# EAGLE library part 692622420101 (library WE_Stecker)
MICRO USB 3.0 TYPE B VERTICAL SMT - WITH PADS & POSITIONNING PEG =>ConUSB3 692622420101 Characteristics INSULATOR:LCP FLAMMABILITY RATING: UL94-V0 COLOR: BLACK CONTACT MATERIAL: BRASS CONTACT PLATING: GOLD OVER TIN COVER MATERIAL: STAINLESS STEEL COVER PLATING: Ni QUALITY CLASS: 10000 MATING CYCLES OPERATING TEMPERATURE:-30°C UP TO +85°C COMPLIANCE: LEAD FREE AND ROHS ELECTRICAL CURRENT RATING: 2A CURRENT RATING: - PIN 1 & PIN 5: 1.8A - OTHER PINS: 0.25A WORKING VOLTAGE: 30 VAC WITHSTANDING VOLTAGE: 100 VAC/MIN INSULATION RESISTANCE: > 1000 MΩ CONTACT RESISTANCE: 30 mΩ MAX <http://katalog.we-online.de/media/images/v2/Family_p326_WR-COM_692622420101_4C.jpg> Details see: http://katalog.we-online.de/en/em/COM_MICRO_3_0_SMT_TYPE_B_VERTICAL/692622420101 2015 (C) Wurth Elektronik
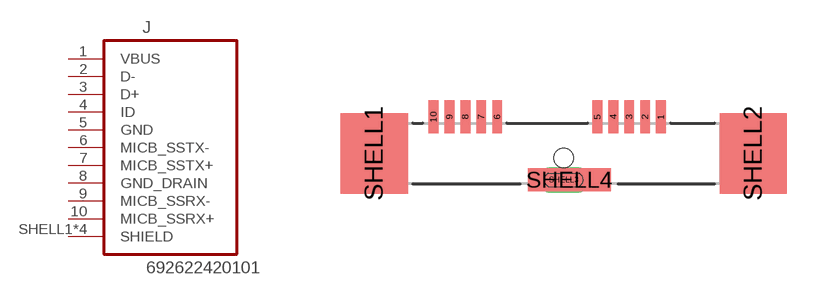
[diagram p171: symbol with the pads of 692622420101; footprint 692622420101]

Designator prefix J

## 692622420101  [692622420101]
1  VBUS
2  D-
3  D+
4  ID
5  GND
6  MICB_SSTX-
7  MICB_SSTX+
8  GND_DRAIN
9  MICB_SSRX-
10  MICB_SSRX+
SHELL1  SHIELD
SHELL2  SHIELD
SHELL3  SHIELD
SHELL4  SHIELD

## Footprint 692622420101 (pad centres in mm)
smd 0.4 x 1.35: 1 4.65,1.5; 2 4,1.5; 3 3.35,1.5; 4 2.7,1.5; 5 2.05,1.5; 6 -2.05,1.5; 7 -2.7,1.5; 8 -3.35,1.5; 9 -4,1.5; 10 -4.65,1.5
smd 2.75 x 3.3: SHELL1 -7.08,0; SHELL2 8.42,0
drill 0.55 pad 0.95 long: SHELL3 0.67,-1.08
smd 3.4 x 0.95: SHELL4 0.9,-1.08
hole 0.8 at 0.67,-0.19